# Altium footprint library PCB - LEADED - SOP - MICROCHIP MSOP-8 MS.PcbLib: 1 footprints
Each footprint in its own frame and in the unit in brackets; x right, y up, seen from the top. Pads: shape width x height; smd on the part's side, far side on the other; paste and mask are expansions set on the pad; w line width, h text height; cw(c..) or ccw(c..) is an arc to the next point about the centre after c.
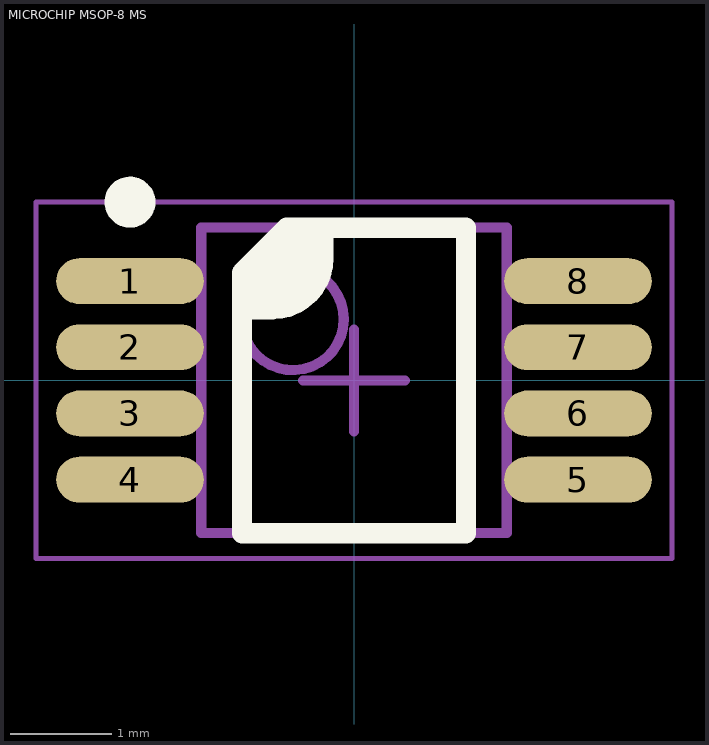
[diagram p0: the footprint, top view; thin cyan lines are the x and y axes]

## MICROCHIP MSOP-8 MS [mm] "MSOP, 8-Leads, Body 3.00x3.00mm, Pitch 0.65mm, IPC Medium Density"
height 1.1
pads (8):
  oval 1.45x0.45 smd: 1(-2.2,0.975) 2(-2.2,0.325) 3(-2.2,-0.325) 4(-2.2,-0.975) 5(2.2,-0.975) 6(2.2,-0.325) 7(2.2,0.325) 8(2.2,0.975)
Top Overlay:
  circle w0.25: c-2.2,1.75 r0.125
  region: -0.659,1.5 -0.3,1.5 -0.3,1 -0.6,0.7 -1.1,0.7 -1.1,1.059
  lines w0.2: -1.1,0.7 -0.8,0.7 ccw(c-0.8,1.2) -0.3,1.2 -0.3,1.5 ; -1.1,-1.5 -1.1,1.059 -0.659,1.5 1.1,1.5 1.1,-1.5 -1.1,-1.5
Mechanical 13:
  circle w0.1: c-0.6,0.6 r0.5
  lines w0.1: -1.5,-1.5 -1.5,1.5 1.5,1.5 1.5,-1.5 -1.5,-1.5
Mechanical 15:
  lines w0.05: -3.125,-1.75 -3.125,1.75 3.125,1.75 3.125,-1.75 -3.125,-1.75
  lines w0.1: -0.5,0 0.5,0 ; 0,-0.5 0,0.5
3D body "MICROCHIP MSOP-8 MS.step": height 1.1, standoff 0, extent -2.45,-1.5 2.45,1.5